# Altium footprint library ECS-80-18-5PX-TR_V.PcbLib: 1 footprints
Each footprint in its own frame and in the unit in brackets; x right, y up, seen from the top. Pads: shape width x height; smd on the part's side, far side on the other; paste and mask are expansions set on the pad; w line width, h text height; cw(c..) or ccw(c..) is an arc to the next point about the centre after c.
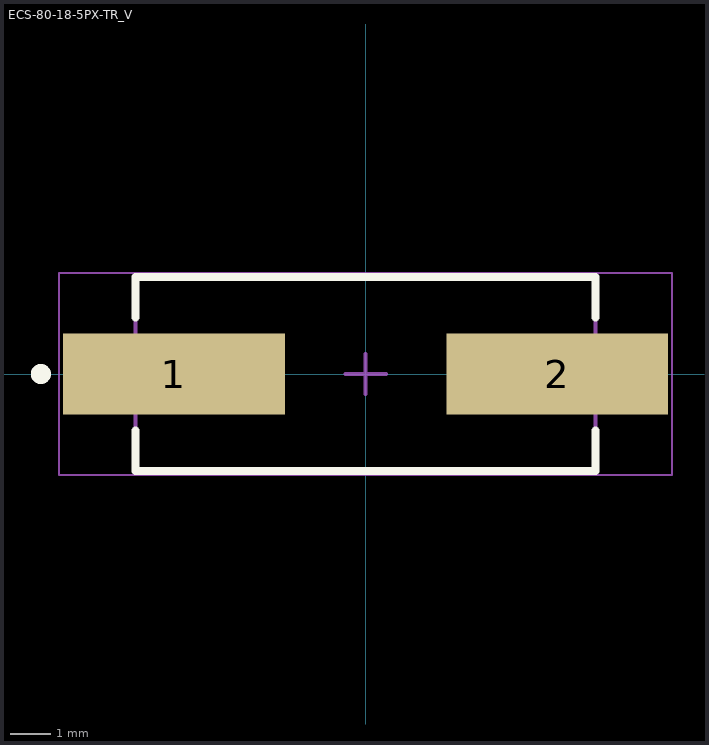
[diagram p0: the footprint, top view; thin cyan lines are the x and y axes]

## ECS-80-18-5PX-TR_V [mm] "SMD, 2-Leads, Body 11.4x4.8mm, Height 4.3mm"
height 4.3
pads (2):
  rect 5.5x2 smd: 1(-4.75,0) 2(4.75,0)
Top Overlay:
  circle w0.25: c-8.05,0 r0.125
  lines w0.2: -5.7,-1.4 -5.7,-2.4 5.7,-2.4 5.7,-1.4 ; -5.7,1.4 -5.7,2.4 5.7,2.4 5.7,1.4
Mechanical 13:
  lines w0.1: -5.7,-2.4 -5.7,2.4 5.7,2.4 5.7,-2.4 -5.7,-2.4
Mechanical 15:
  lines w0.05: -7.6,-2.5 7.6,-2.5 7.6,2.5 -7.6,2.5 -7.6,-2.5
  lines w0.1: -0.5,0 0.5,0 ; 0,-0.5 0,0.5
3D body: height 0.3, standoff 0, extent 2.2,-0.314 6.599,0.315
3D body: height 0.3, standoff 0, extent -6.599,-0.314 -2.201,0.314
3D body: height 4.3, standoff 1, extent -5.151,-1.901 5.151,1.901
3D body: height 1, standoff 0.75, extent -5.676,-2.401 5.676,2.401
3D body: height 0.75, standoff 0.05, extent -5.699,-2.399 5.699,2.399